# EAGLE library part RS232_HEADER (library HomeKinection)
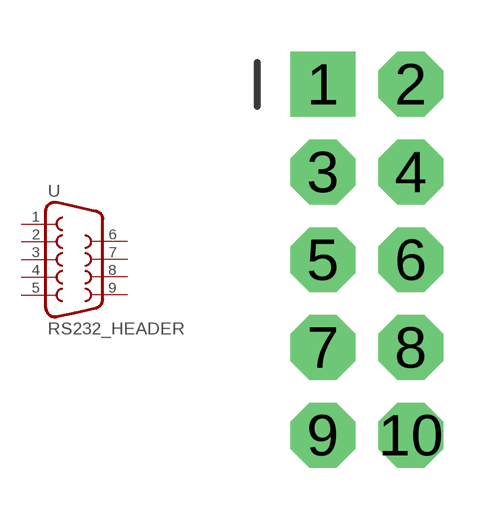
[diagram p6: symbol with the pads of 2X5-NS; footprint 2X5-NS]

Designator prefix -

## RS232_HEADER  [2X5-NS]
1  1
2  2
3  3
4  4
5  5
6  6
7  7
8  8
9  9

## Footprint 2X5-NS (pad centres in mm)
drill 1.016 pad 1.88 square: 1 -1.27,5.08
drill 1.016 pad 1.88 octagon: 2 1.27,5.08; 3 -1.27,2.54; 4 1.27,2.54; 5 -1.27,0; 6 1.27,0; 7 -1.27,-2.54; 8 1.27,-2.54; 9 -1.27,-5.08; 10 1.27,-5.08